# Altium footprint library 24549853.PcbLib: 1 footprints
Each footprint in its own frame and in the unit in brackets; x right, y up, seen from the top. Pads: shape width x height; smd on the part's side, far side on the other; paste and mask are expansions set on the pad; w line width, h text height; cw(c..) or ccw(c..) is an arc to the next point about the centre after c.
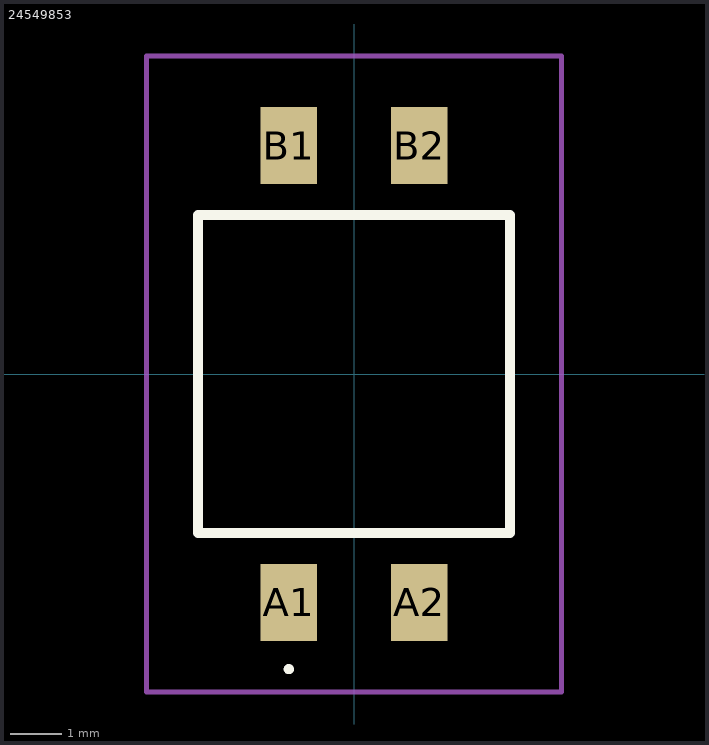
[diagram p0: the footprint, top view; thin cyan lines are the x and y axes]

## 24549853 [mm]
pads (4):
  rect 1.1x1.5 smd: A1(-1.27,-4.45) A2(1.27,-4.45) B1(-1.27,4.45) B2(1.27,4.45)
Top Overlay:
  lines w0.1: -1.27,-5.8 cw(c-1.27,-5.75) -1.27,-5.7 ; -1.27,-5.8 -1.27,-5.8 ; -1.27,-5.8 ccw(c-1.27,-5.75) -1.27,-5.7 ; -1.27,-5.7 -1.27,-5.7
  lines w0.2: -3.04,-3.1 3.04,-3.1 3.04,3.1 -3.04,3.1 -3.04,-3.1
Mechanical 15:
  lines w0.1: -3.04,-3.1 3.04,-3.1 3.04,3.1 -3.04,3.1 -3.04,-3.1
Mechanical 20:
  lines w0.1: -4.04,-6.2 4.04,-6.2 4.04,6.2 -4.04,6.2 -4.04,-6.2